# Altium footprint library Capacitors.PcbLib: 8 footprints
Each footprint in its own frame and in the unit in brackets; x right, y up, seen from the top. Pads: shape width x height; smd on the part's side, far side on the other; paste and mask are expansions set on the pad; w line width, h text height; cw(c..) or ccw(c..) is an arc to the next point about the centre after c.
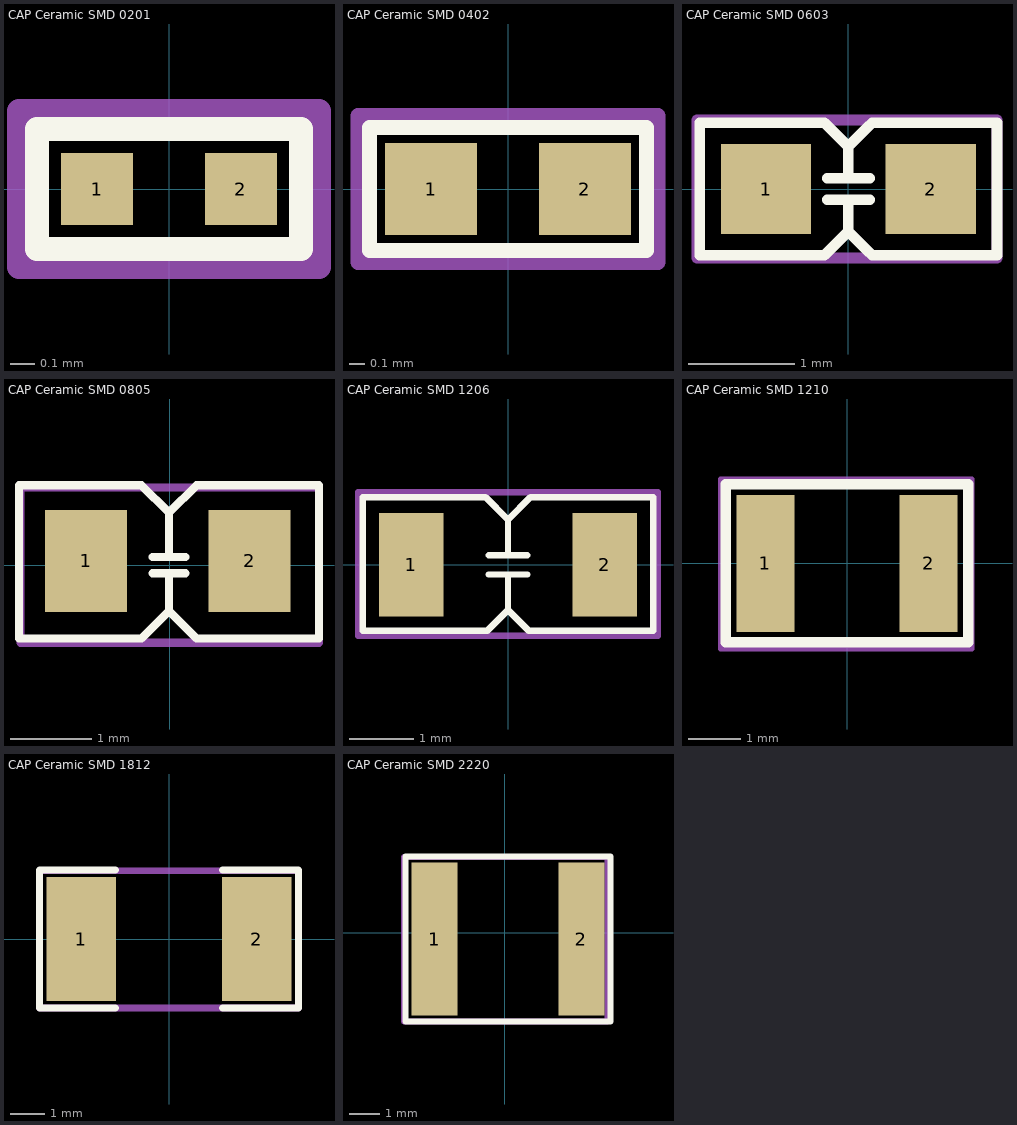
[diagram p0: the footprints below, top view; thin cyan lines are the x and y axes]

## CAP Ceramic SMD 0201 [mm]
height 0.23
pads (2):
  rect 0.3x0.3 smd mask+0.05: 1(-0.3,0) 2(0.3,0)
Top Overlay:
  lines w0.1: -0.55,-0.25 -0.55,0.25 0.55,0.25 0.55,-0.25 -0.55,-0.25
Assembly Notes:
  lines w0.1: -0.625,-0.325 0.625,-0.325 0.625,0.325 -0.625,0.325 -0.625,-0.325
  text ".Designator" at -1.749,-0.117 h0.35
3D body "chip_0201_r.STEP": height 0.22, standoff -0.02, extent -0.3,-0.15 0.3,0.15

## CAP Ceramic SMD 0402 [mm]
height 0.35
pads (2):
  rect 0.6x0.6 smd mask+0.05: 1(-0.5,0) 2(0.5,0)
Top Overlay:
  lines w0.1: -0.9,-0.4 0.9,-0.4 0.9,0.4 -0.9,0.4 -0.9,-0.4
Assembly Notes:
  lines w0.1: -0.975,-0.475 -0.975,0.475 0.975,0.475 0.975,-0.475 -0.975,-0.475
  text ".Designator" at -1.749,-0.117 h0.35
3D body "chip_0402_r.STEP": height 0.34, standoff -0.02, extent -0.525,-0.25 0.475,0.25

## CAP Ceramic SMD 0603 [mm]
height 0.45
pads (2):
  rect 0.85x0.85 smd: 1(-0.775,0) 2(0.775,0)
Top Overlay:
  lines w0.1: -0.2,-0.6 0,-0.4 ; -0.2,-0.1 0.2,-0.1 ; -0.2,0.1 0.2,0.1 ; -0.2,0.6 0,0.4 ; 0,-0.1 0,-0.4 ; 0,0.1 0,0.4 ; 0.2,-0.6 0,-0.4 ; 0.2,0.6 0,0.4 ; 0,-0.4 0.225,-0.625 1.4,-0.625 1.4,0.625 0.225,0.625 0,0.4 ; 0,-0.4 -0.225,-0.625 -1.4,-0.625 -1.4,0.625 -0.225,0.625 0,0.4
Assembly Notes:
  lines w0.1: -1.425,-0.65 -1.425,0.65 1.4,0.65 1.4,-0.65 -1.425,-0.65
  text ".Designator" at -2.499,-0.167 h0.5
3D body "chip_0603_r.STEP": height 0.44, standoff -0.02, extent -0.8,-0.4 0.8,0.4

## CAP Ceramic SMD 0805 [mm]
height 0.45
pads (2):
  rect 1x1.25 smd: 1(-1.025,0.05) 2(0.975,0.05)
Top Overlay:
  lines w0.1: -0.21,-0.1 0.19,-0.1 ; -0.21,0.1 0.19,0.1 ; -0.01,-0.565 0.325,-0.9 1.825,-0.9 1.825,0.975 0.325,0.975 -0.01,0.64 ; -0.01,-0.565 -0.01,-0.1 -0.01,-0.565 ; -0.01,-0.565 -0.345,-0.9 -1.845,-0.9 -1.845,0.975 -0.345,0.975 -0.01,0.64 ; -0.01,0.64 -0.01,0.175 -0.01,0.64 ; -0.01,0.1 -0.01,0.4 -0.01,0.1
Assembly Notes:
  lines w0.1: -1.825,-0.95 1.825,-0.95 1.825,0.95 -1.825,0.95 -1.825,-0.95
  text ".Designator" at -2.499,-0.167 h0.5
3D body "SW3dPS-0805 SMD Capacitor.STEP": height 0.78, standoff 0, extent -1,-0.525 1,0.725

## CAP Ceramic SMD 1206 [mm]
height 0.6
pads (2):
  rect 1x1.6 smd: 1(-1.5,0) 2(1.5,0)
Top Overlay:
  lines w0.1: -0.3,-0.15 0.3,-0.15 ; -0.3,0.15 0.3,0.15 ; 0,-0.15 0,-0.7 ; 0,0.15 0,0.7 ; 0,-0.7 -0.325,-1.025 -2.25,-1.025 -2.25,1.05 -0.35,1.05 0,0.7 ; 0,-0.7 0.325,-1.025 2.25,-1.025 2.25,1.05 0.35,1.05 0,0.7
Assembly Notes:
  lines w0.1: -2.325,-1.1 -2.325,1.125 2.325,1.125 2.325,-1.1 -2.325,-1.1
  text ".Designator" at -3.749,-0.25 h0.75
3D body "SW3dPS-1206 SMD Capacitor.STEP": height 1, standoff 0, extent -1.6,-0.8 1.6,0.8

## CAP Ceramic SMD 1210 [mm]
height 2.5
pads (2):
  rect 1.1x2.6 smd: 1(-1.55,0) 2(1.55,0)
Top Overlay:
  lines w0.2: -2.3,-1.5 -2.3,1.5 2.3,1.5 2.3,-1.5 -2.3,-1.5
Assembly Notes:
  lines w0.1: -2.4,-1.625 2.375,-1.625 2.375,1.6 -2.4,1.6 -2.4,-1.625
  text ".Designator" at -3.749,-0.25 h0.75
3D body "User Library-1210(3225M) Cap.STEP": height 1.7, standoff 0, extent -2,-1.244 2,1.245

## CAP Ceramic SMD 1812 [mm]
height 1.4
pads (2):
  rect 2x3.6 smd: 1(-2.54,0) 2(2.54,0)
Top Overlay:
  lines w0.2: -1.549,-2 -3.75,-2 -3.75,2 -1.549,2 ; 1.549,-2 3.75,-2 3.75,2 1.549,2
Assembly Notes:
  lines w0.2: -3.75,-2 -3.75,1.975 3.75,1.975 3.75,-2 -3.75,-2
  text ".Designator" at -3.749,-0.25 h0.75
3D body "SW3dPS-1812 SMD Capacitor.STEP": height 1.6, standoff 0, extent -2.25,-1.6 2.25,1.6

## CAP Ceramic SMD 2220 [mm]
pads (2):
  rect 1.5x5 smd: 1(-2.3,-0.2) 2(2.5,-0.2)
Top Overlay:
  lines w0.2: -3.243,-2.9 3.449,-2.9 3.449,2.501 -3.243,2.501 -3.243,-2.9
Assembly Notes:
  lines w0.2: -3.3,-2.9 -3.3,2.475 3.35,2.475 3.35,-2.9 -3.3,-2.9
  text ".Designator" at -3.724,-0.25 h0.75
3D body "User Library-CAPC5750X23.STEP": height 2.3, standoff 0, extent -2.75,-2.7 2.95,2.3